# EAGLE library part XCL101 (library torexsemi)
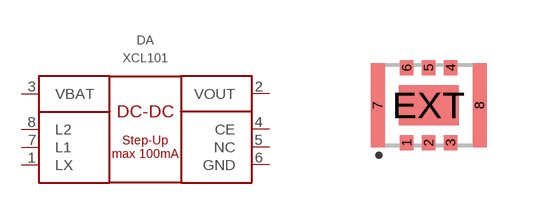
[diagram p0: symbol with the pads of CL-2025-02; footprint CL-2025-02]

Designator prefix DA

## XCL101C181BR-G  [CL-2025-02]
1  LX  pas
2  VOUT  pwr
3  VBAT  pwr
4  CE  in
5  NC  nc
6  GND  pwr
7  L1  pas
8  L2  pas

## XCL101A181BR-G  [CL-2025-02]
Pads as for CL-2025-02

## XCL101A251BR-G  [CL-2025-02]
Pads as for CL-2025-02

## XCL101A331BR-G  [CL-2025-02]
Pads as for CL-2025-02

## XCL101A501BR-G  [CL-2025-02]
Pads as for CL-2025-02

## XCL101A181ER-G  [CL-2025-02]
Pads as for CL-2025-02

## Footprint CL-2025-02 (pad centres in mm)
smd 0.34 x 0.375: 1 -0.55,-0.938; 2 0,-0.938; 3 0.55,-0.938; 4 0.55,0.938; 5 0,0.938; 6 -0.55,0.938
smd 0.35 x 2.1: 7 -1.275,0; 8 1.275,0
smd 1.5 x 1: EXT 0,0